# EAGLE library part DP83848J (library ic-TI)
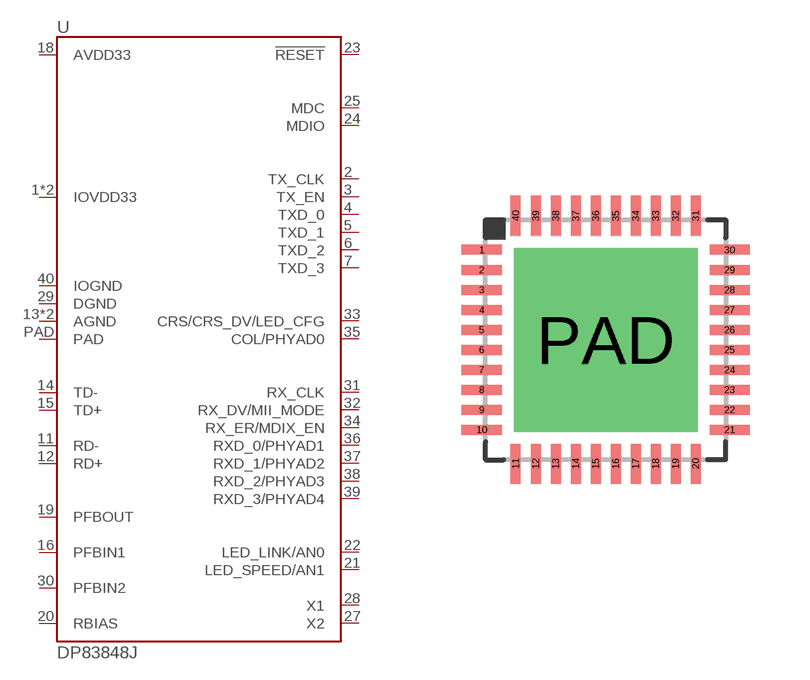
[diagram p53: symbol with the pads of QFN40-0.5-PAD; footprint QFN40-0.5-PAD]

Designator prefix U

## DP83848J  [QFN40-0.5-PAD]
1  IOVDD33
2  TX_CLK
3  TX_EN
4  TXD_0
5  TXD_1
6  TXD_2
7  TXD_3
11  RD-
12  RD+
13  AGND
14  TD-
15  TD+
16  PFBIN1
17  AGND
18  AVDD33
19  PFBOUT
20  RBIAS
21  LED_SPEED/AN1
22  LED_LINK/AN0
23  !RESET
24  MDIO
25  MDC
26  IOVDD33
27  X2
28  X1
29  DGND
30  PFBIN2
31  RX_CLK
32  RX_DV/MII_MODE
33  CRS/CRS_DV/LED_CFG
34  RX_ER/MDIX_EN
35  COL/PHYAD0
36  RXD_0/PHYAD1
37  RXD_1/PHYAD2
38  RXD_2/PHYAD3
39  RXD_3/PHYAD4
40  IOGND
PAD  PAD

## Footprint QFN40-0.5-PAD (pad centres in mm)
smd 1 x 0.25: 1 -3.1,2.25; 2 -3.1,1.75; 3 -3.1,1.25; 4 -3.1,0.75; 5 -3.1,0.25; 6 -3.1,-0.25; 7 -3.1,-0.75; 8 -3.1,-1.25; 9 -3.1,-1.75; 10 -3.1,-2.25; 21 3.1,-2.25; 22 3.1,-1.75; 23 3.1,-1.25; 24 3.1,-0.75; 25 3.1,-0.25; 26 3.1,0.25; 27 3.1,0.75; 28 3.1,1.25; 29 3.1,1.75; 30 3.1,2.25
smd 0.25 x 1: 11 -2.25,-3.1; 12 -1.75,-3.1; 13 -1.25,-3.1; 14 -0.75,-3.1; 15 -0.25,-3.1; 16 0.25,-3.1; 17 0.75,-3.1; 18 1.25,-3.1; 19 1.75,-3.1; 20 2.25,-3.1; 31 2.25,3.1; 32 1.75,3.1; 33 1.25,3.1; 34 0.75,3.1; 35 0.25,3.1; 36 -0.25,3.1; 37 -0.75,3.1; 38 -1.25,3.1; 39 -1.75,3.1; 40 -2.25,3.1
drill 3.3 pad 4.6 square: PAD 0,0